# Altium integrated library USB4085-GF-A_revA.IntLib: 1 symbol
Pins are listed as number, name and electrical type; pins without a type are passive.

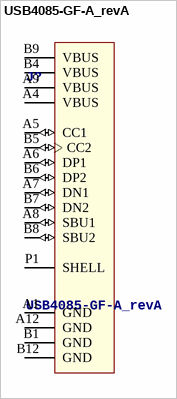
[diagram p0: symbol USB4085-GF-A_revA]

## USB4085-GF-A_revA
designator J?
USB 2.0 Type C Receptacle Dip Type, PCB Top Mount; MANUFACTURER: Global Connector Technology; PARTREV: A; STANDARD: Manufacturer Recommendations
footprint GCT_USB4085-GF-A_REVA (USB 2.0 Type C Receptacle Dip Type, PCB Top Mount)
pins: A1 GND (power), A4 VBUS (power), A5 CC1 (io), A6 DP1 (io), A7 DN1 (io), A8 SBU1 (io), A9 VBUS (power), A12 GND (power), B1 GND, B4 VBUS (power), B5 CC2 (io), B6 DP2 (io), B7 DN2 (io), B8 SBU2 (io), B9 VBUS (power), B12 GND (power), P1 SHELL